# Altium footprint library MAX30102EFDT.PcbLib: 1 footprints
Each footprint in its own frame and in the unit in brackets; x right, y up, seen from the top. Pads: shape width x height; smd on the part's side, far side on the other; paste and mask are expansions set on the pad; w line width, h text height; cw(c..) or ccw(c..) is an arc to the next point about the centre after c.
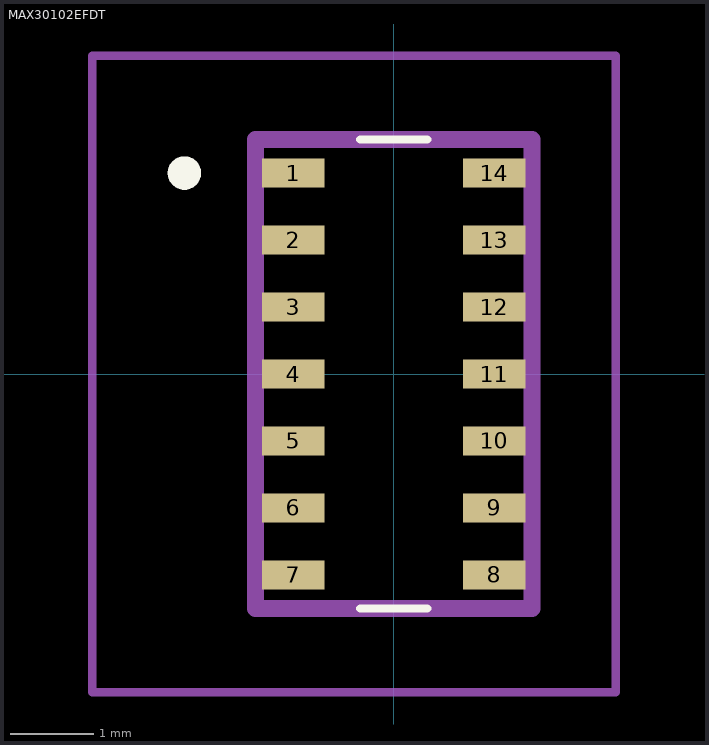
[diagram p0: the footprint, top view; thin cyan lines are the x and y axes]

## MAX30102EFDT [mm]
pads (14):
  rect 0.75x0.35 smd: 1(-1.2,2.4) 2(-1.2,1.6) 3(-1.2,0.8) 4(-1.2,0) 5(-1.2,-0.8) 6(-1.2,-1.6) 7(-1.2,-2.4) 8(1.2,-2.4) 9(1.2,-1.6) 10(1.2,-0.8) 11(1.2,0) 12(1.2,0.8) 13(1.2,1.6) 14(1.2,2.4)
Top Overlay:
  lines w0.1: -0.4,-2.8 0.4,-2.8 ; -0.4,2.8 0.4,2.8
  lines w0.2: -2.6,2.4 -2.6,2.4 ; -2.6,2.4 ccw(c-2.5,2.4) -2.4,2.4 ; -2.6,2.4 cw(c-2.5,2.4) -2.4,2.4 ; -2.4,2.4 -2.4,2.4
Mechanical 15:
  lines w0.2: -1.65,-2.8 1.65,-2.8 1.65,2.8 -1.65,2.8 -1.65,-2.8
Mechanical 20:
  lines w0.1: -3.6,-3.8 2.65,-3.8 2.65,3.8 -3.6,3.8 -3.6,-3.8